# Altium footprint library custom_cap.PcbLib: 1 footprints
Each footprint in its own frame and in the unit in brackets; x right, y up, seen from the top. Pads: shape width x height; smd on the part's side, far side on the other; paste and mask are expansions set on the pad; w line width, h text height; cw(c..) or ccw(c..) is an arc to the next point about the centre after c.
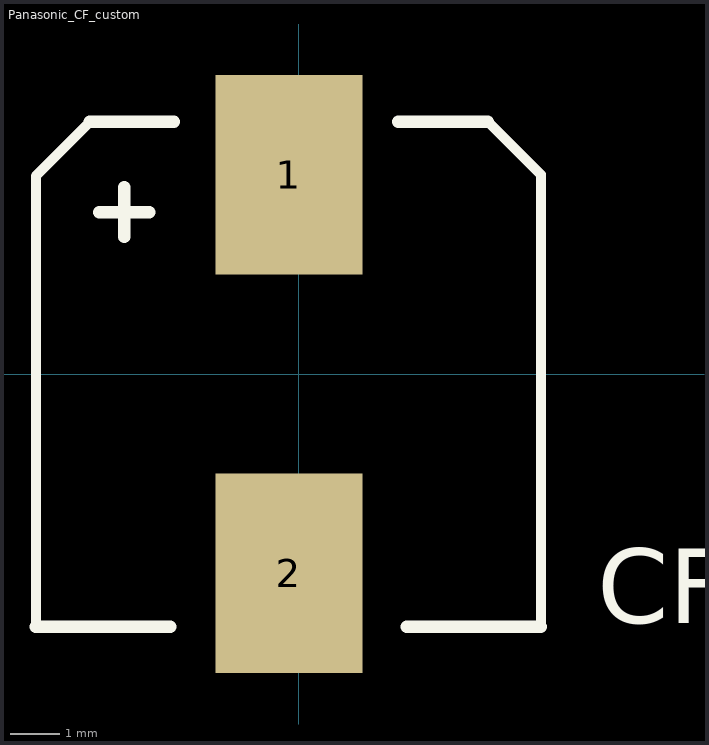
[diagram p0: the footprint, top view; thin cyan lines are the x and y axes]

## Panasonic_CF_custom [mil] "220 uF cap, custom"
pads (2):
  rect 118.11x160 smd: 1(-7.72,160) 2(-7.72,-160)
Top Overlay:
  lines w8: -210.94,-202.99 -210.94,159.06 -167.48,202.52 ; 152.05,202.52 194.57,160 194.57,-202.99
  lines w10: -210.94,-202.99 -102.99,-202.99 ; -167.48,202.52 -100,202.52 ; -160,130 -120,130 ; -140,110 -140,150 ; 80,202.52 152.05,202.52 ; 87.01,-202.99 194.57,-202.99
  text "CF Cap" at 240,-200 h60
3D body: height 393.7, standoff 0, extent -205.3,-196.46 186.85,196.46